# Altium footprint library PcbLib1.PcbLib: 5 footprints
Each footprint in its own frame and in the unit in brackets; x right, y up, seen from the top. Pads: shape width x height; smd on the part's side, far side on the other; paste and mask are expansions set on the pad; w line width, h text height; cw(c..) or ccw(c..) is an arc to the next point about the centre after c.
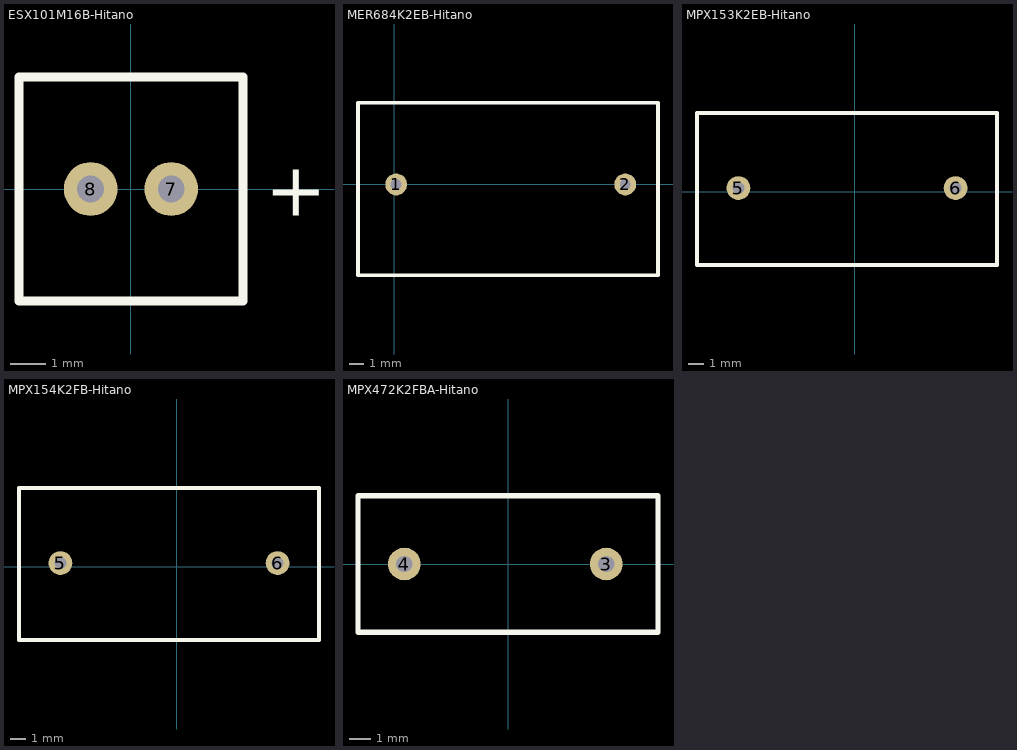
[diagram p0: the footprints below, top view; thin cyan lines are the x and y axes]

## ESX101M16B-Hitano [mil]
pads (2):
  round 60 hole 30: 7(45,0) 8(-45,0)
Top Overlay:
  lines w10: -125,-125 125,-125 125,125 -125,125 -125,-125
  text "+" at 150,-30 h60
3D body "ESX101M16B-Hitano v2.step": height 433.07, standoff -393.7, extent -124.01,-123.89 124.02,123.89

## MER684K2EB-Hitano [mil]
pads (2):
  round 60 hole 30: 1(5,0) 2(635,0)
Top Overlay:
  lines w10: -100,-250 -100,225 725,225 725,-250 -100,-250
3D body "-10%), P = 20mm, 9,5x16x18mm (MER684K2EB-Hitano) v1.step": height 826.77, standoff -196.85, extent -33.66,-197.01 675,177.01

## MPX153K2EB-Hitano [mil]
pads (2):
  round 60 hole 30: 5(-295,10) 6(255,10)
Top Overlay:
  lines w10: -400,-185 360,-185 360,200 -400,200 -400,-185
3D body "-10%), P = 15mm, 8,5x14,5x18mm (MPX153K2EB-Hitano) v1.step": height 570.87, standoff -393.7, extent -374.33,-159.65 334.33,175

## MPX154K2FB-Hitano [mil]
pads (2):
  round 60 hole 30: 5(-295,10) 6(255,10)
Top Overlay:
  lines w10: -400,-185 -400,200 360,200 360,-185 -400,-185
3D body "-10%), P = 15mm, 8,5x14,5x18mm (MPX153K2EB-Hitano) v1.step": height 570.87, standoff -393.7, extent -374.33,-159.65 334.33,175

## MPX472K2FBA-Hitano [mil]
pads (2):
  round 60 hole 30: 3(180,0) 4(-190,0)
Top Overlay:
  lines w10: -275,-125 -275,125 275,125 275,-125 -275,-125
3D body "-10%), P = 10mm, 5x11x12,5mm (MPX472K2FBA-Hitano) v3.step": height 433.07, standoff -393.7, extent -250,-98.43 242.12,98.43